# Altium footprint library 0805-DNP.PcbLib: 1 footprints
Each footprint in its own frame and in the unit in brackets; x right, y up, seen from the top. Pads: shape width x height; smd on the part's side, far side on the other; paste and mask are expansions set on the pad; w line width, h text height; cw(c..) or ccw(c..) is an arc to the next point about the centre after c.
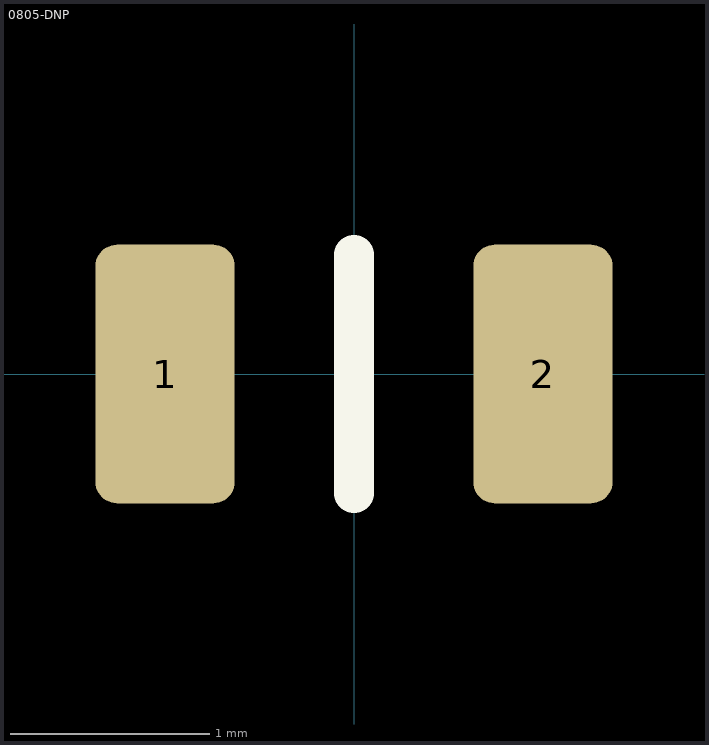
[diagram p0: the footprint, top view; thin cyan lines are the x and y axes]

## 0805-DNP [mm]
pads (2):
  rrect30% 0.7x1.3 smd paste-12.7: 1(-0.95,0) 2(0.95,0)
Top Overlay:
  lines w0.2: 0,-0.6 0,0.6